# EAGLE library part SST25VF016B (library machine_science)
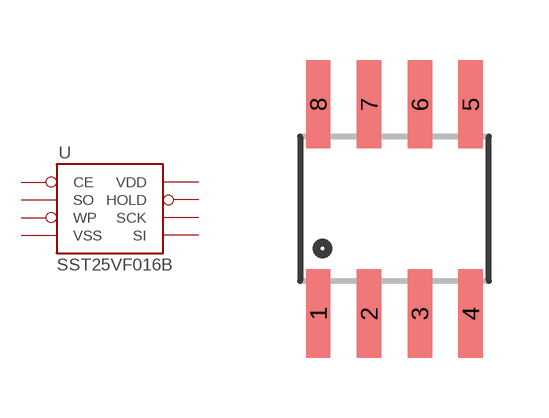
[diagram p37: symbol with the pads of SO08; footprint SO08]

Designator prefix U

## SST25VF016B  [SO08]
1  CE  in
2  SO  out
3  WP  in
4  VSS  pwr
5  SI  in
6  SCK  in
7  HOLD  in
8  VDD  pwr

## Footprint SO08 (pad centres in mm)
Small Outline Package
smd 0.61 x 2.21: 1 -1.905,-2.616; 2 -0.635,-2.616; 3 0.635,-2.616; 4 1.905,-2.616; 5 1.905,2.616; 6 0.635,2.616; 7 -0.635,2.616; 8 -1.905,2.616